# Altium integrated library INA240A4PWR.IntLib: 1 symbol
Pins are listed as number, name and electrical type; pins without a type are passive.

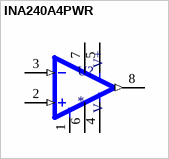
[diagram p0: symbol INA240A4PWR]

## INA240A4PWR
designator U?
-4 to 80V, bidirectional, ultra-precise current sense amplifier with enhanced PWM rejection; MF: Texas Instruments; MP: INA240A4PWR; SnapEDA_Link: https://www.snapeda.com/parts/INA240A4PWR/Texas+Instruments/view-part/?ref=snap; Package: TSSOP-8 Texas Instruments; Value: *; Check_prices: https://www.snapeda.com/parts/INA240A4PWR/Texas+Instruments/view-part/?ref=eda
footprint SOP65P640X120-8N
pins: 1 NC, 2 IN+ (in), 3 IN- (in), 4 GND (power), 5 VS (power), 6 REF2, 7 REF1, 8 OUT (out)
text: V+; V-